# Altium footprint library STM32F051 Components.PcbLib: 18 footprints (part 1 of 2)
Each footprint in its own frame and in the unit in brackets; x right, y up, seen from the top. Pads: shape width x height; smd on the part's side, far side on the other; paste and mask are expansions set on the pad; w line width, h text height; cw(c..) or ccw(c..) is an arc to the next point about the centre after c.
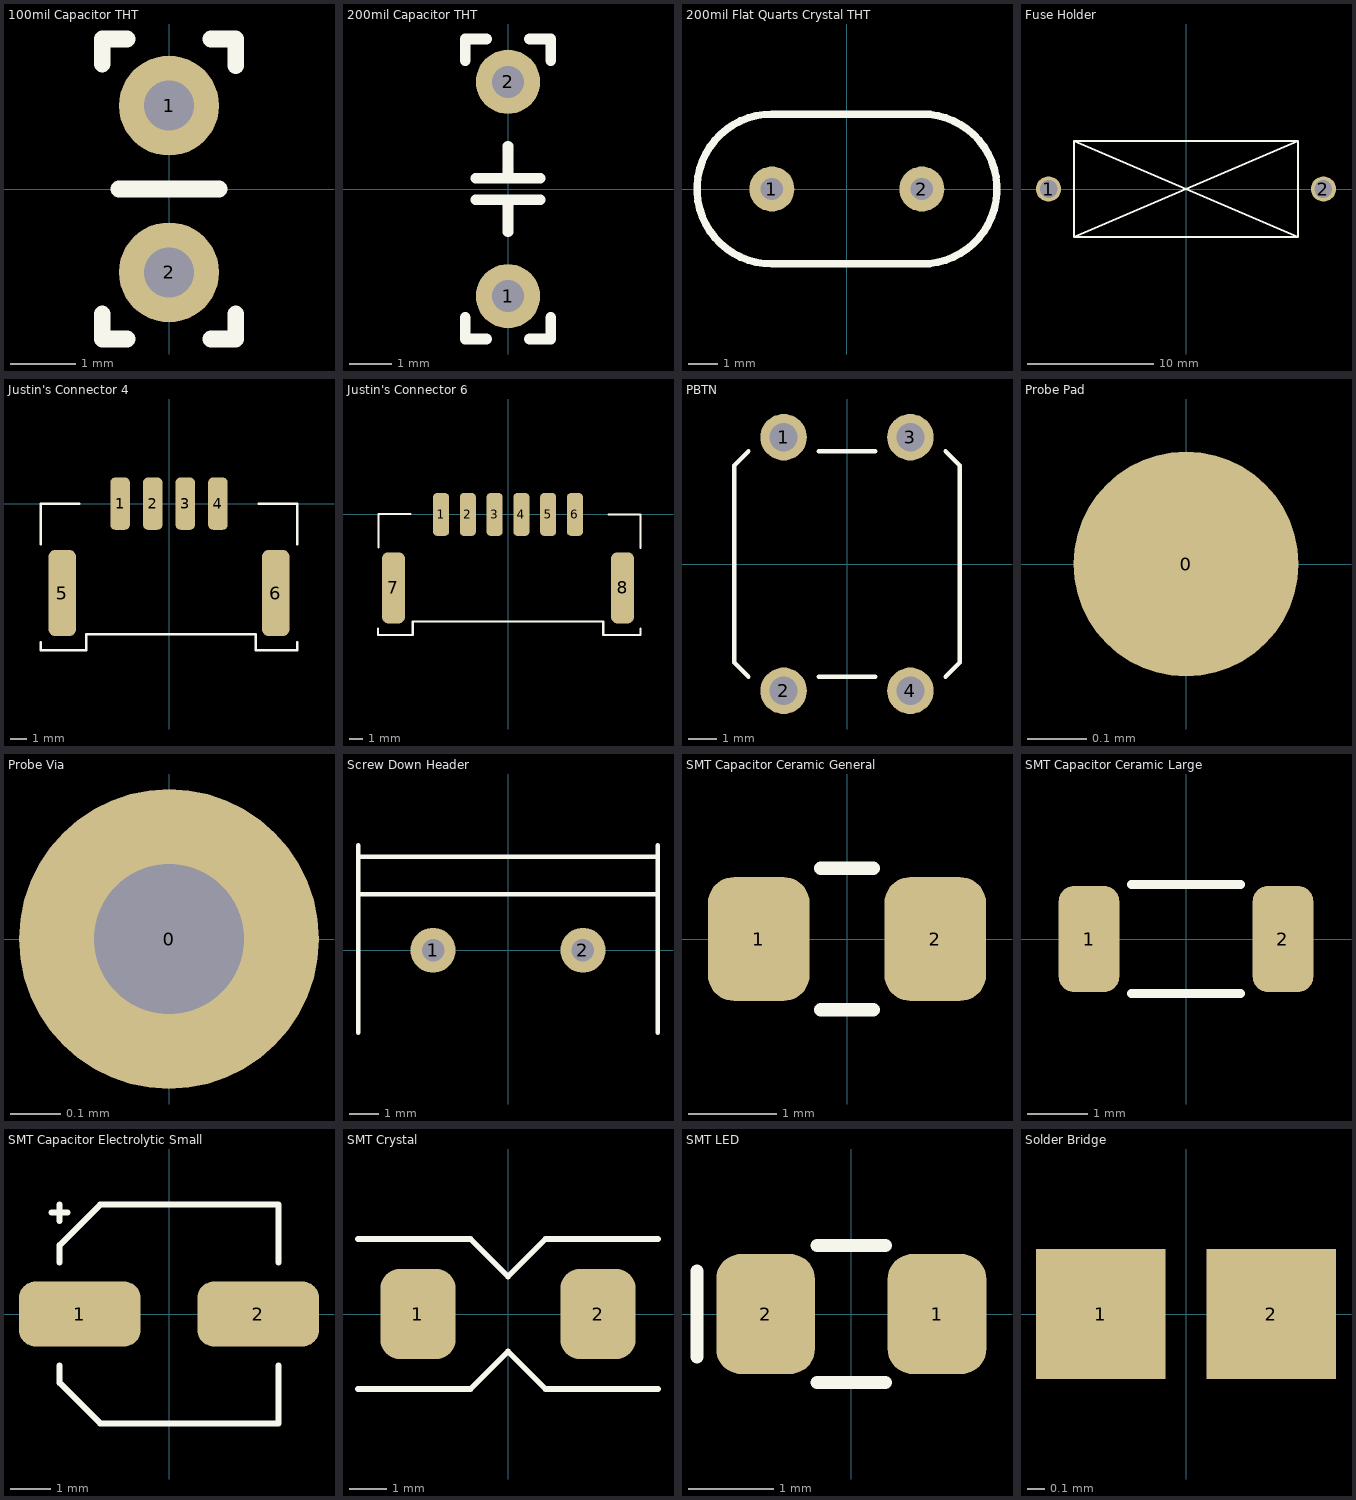
[diagram p0: the footprints below, top view; thin cyan lines are the x and y axes]

## 100mil Capacitor THT [mil] "100mil THT Bipolar Capacitor"
height 50
pads (2):
  round 60 hole 30: 1(0,50) 2(0,-50)
Top Overlay:
  lines w10: -40,-75 -40,-90 -25,-90 ; -40,75 -40,90 -25,90 ; -30,0 30,0 ; 25,-90 40,-90 40,-75 ; 25,90 40,90 40,74

## 200mil Capacitor THT [mil] "200mil THT Bipolar Capacitor"
height 100
pads (2):
  round 60 hole 30: 1(0,-100) 2(0,100)
Top Overlay:
  lines w10: -40,-120 -40,-140 -20,-140 ; -40,120 -40,140 -20,140 ; -30,-10 30,-10 ; -30,10 30,10 ; 0,-40 0,-10 ; 0,10 0,40 ; 20,-140 40,-140 40,-120 ; 20,140 40,140 40,120

## 200mil Flat Quarts Crystal THT [mil] "Standard Ovular Quarts Crystal"
height 2000
pads (2):
  round 60 hole 30: 1(-100,0) 2(100,0)
Top Layer:
  pour cut-out: -150,50
Top Overlay:
  lines w10: 100,100 -100,100 ccw(c-100,0) -100,-100 100,-100 ccw(c100.33,0) 100.11,100

## Fuse Holder [mm]
pads (2):
  round 2 hole 1.4: 1(-10.92,0) 2(10.92,0)
Top Overlay:
  lines w0.152: -8.89,-3.81 8.89,3.81 ; -8.89,-3.81 -8.89,3.81 ; -8.89,-3.81 8.89,-3.81 ; -8.89,3.81 8.89,-3.81 ; -8.89,3.81 8.89,3.81 ; 8.89,-3.81 8.89,3.81

## Justin's Connector 4 [mm]
pads (6):
  rrect50% 1.2x3.2 smd: 1(-3,0) 2(-1,0) 3(1,0) 4(3,0)
  rrect50% 1.7x5.3 smd: 5(-6.55,-5.48) 6(6.55,-5.48)
Top Overlay:
  lines w0.152: -7.874,-8.5 -7.874,-9 -5.08,-9 -5.08,-8 5.334,-8 5.334,-9 7.874,-9 7.874,-8.5 ; -7.874,-2.5 -7.874,0 -5.5,0 ; 5.5,0 7.874,0 7.874,-2.5
3D body: height 6.7, standoff -6, extent -7.8,0 -7.8,0
3D body: height 10, standoff 0, extent -7.875,-9 7.875,0

## Justin's Connector 6 [mm]
pads (8):
  rrect50% 1.2x3.2 smd: 1(-5,0) 2(-3,0) 3(-1,0) 4(1,0) 5(3,0) 6(5,0)
  rrect50% 1.7x5.3 smd: 7(-8.55,-5.48) 8(8.55,-5.48)
Top Overlay:
  lines w0.152: -9.7,-8.5 -9.7,-9 -7.112,-9 -7.112,-8 7.112,-8 7.112,-9 9.906,-9 9.906,-8.5 ; -9.681,-2.45 -9.681,0.05 -7.275,0.05 ; 7.5,0 9.906,0 9.906,-2.5
3D body: height 6.7, standoff -6, extent -9.7,0.05 -9.7,0.05
3D body: height 10, standoff 0, extent -9.725,-9.05 9.9,0.05

## PBTN [mm] "Standard Push Button"
pads (4):
  round 1.65 hole 1: 1(-2.25,4.5) 2(-2.25,-4.5) 3(2.25,4.5) 4(2.25,-4.5)
Top Overlay:
  lines w0.152: -3.5,-4 -4,-3.5 -4,-1.5 -4,3.5 -3.5,4 ; -1,-4 1,-4 ; -1,4 1,4 ; 3.5,-4 4,-3.5 4,3.5 3.5,4
3D body: height 5, standoff 4, extent -1.488,-1.497 1.5,1.497
3D body: height 4, standoff 0, extent -4,-3.5 4,3.5
3D body: height 4.2, standoff 4, extent 2.704,-3.199 3.7,-2.201
3D body: height 4.2, standoff 4, extent -3.796,-3.299 -2.8,-2.301
3D body: height 4.2, standoff 4, extent -3.796,2.301 -2.8,3.299
3D body: height 4.2, standoff 4, extent 2.804,2.301 3.8,3.299

## Probe Pad [mil] "Standard Small Probe Point"
height 10
pads (1):
  round 15 smd: 0(0,0)

## Probe Via [mm]
pads (1):
  round 0.6 hole 0.3: 0(0,0)

## Screw Down Header [mil]
pads (2):
  round 60 hole 30: 1(-100,0) 2(100,0)
Top Overlay:
  lines w6: -200,-110 -200,140 ; -200,75 200,75 ; -200,125 200,125 ; 200,-110 200,140
3D body: height 393.7, standoff 0, extent -200.79,-110.24 200.01,74.8
3D body: height 275.59, standoff 0, extent -200.79,74.8 200.79,125.98
3D body: height 263.78, standoff -236.22, extent 240.16,43.31 240.16,43.31

## SMT Capacitor Ceramic General [mm] "Rushed General Hand Solderable SMT Capacitor"
height 0.127
pads (2):
  rrect50% 1.15x1.4 smd: 1(-1,0) 2(1,0)
Top Overlay:
  lines w0.152: -0.3,-0.8 0.3,-0.8 ; -0.3,0.8 0.3,0.8
3D body: height 1, standoff 0, extent -1,-0.7 1,0.7

## SMT Capacitor Ceramic Large [mm]
pads (2):
  rrect50% 1x1.75 smd: 1(-1.6,0) 2(1.6,0)
Top Overlay:
  lines w0.152: -0.9,-0.9 0.9,-0.9 ; -0.9,0.9 0.9,0.9
3D body: height 6.7, standoff -6, extent -0.7,0.2 -0.7,0.2
3D body: height 6.7, standoff -6, extent -0.7,-0.1 -0.7,-0.1
3D body: height 1, standoff 0, extent -1.6,-0.95 1.6,0.95

## SMT Capacitor Electrolytic Small [mm]
pads (2):
  rrect50% 3x1.6 smd: 1(-2.2,0) 2(2.2,0)
Top Overlay:
  lines w0.152: -2.9,2.5 -2.5,2.5 ; -2.7,-1.27 -2.7,-1.7 -1.7,-2.7 2.7,-2.7 2.7,-1.27 ; -2.7,1.27 -2.7,1.7 -1.7,2.7 2.7,2.7 2.7,1.27 ; -2.7,2.3 -2.7,2.7
3D body: height 5, standoff 2, extent -2,-2 2,2
3D body: height 2, standoff 0, extent -2.7,-2.7 2.7,2.7

## SMT Crystal [mm] "SMT Crystal usually 8MHz"
height 0.635
pads (2):
  rrect50% 2x2.4 smd: 1(-2.4,0) 2(2.4,0)
Top Overlay:
  lines w0.152: -4,-2 -1,-2 0,-1 1,-2 4,-2 ; -4,2 -1,2 0,1 1,2 4,2
3D body: height 3, standoff 0, extent -2.4,-1.6 2.4,1.6

## SMT LED [mm] "Small SMT LED"
pads (2):
  rrect50% 1.15x1.4 smd: 1(1,0) 2(-1,0)
Top Overlay:
  lines w0.152: -1.8,-0.5 -1.8,0.5 ; -0.4,-0.8 0.4,-0.8 ; -0.4,0.8 0.4,0.8
3D body: height 2, standoff 0, extent -1.1,-0.8 1,0.8

## Solder Bridge [mil] "Small Solder Bridge Pad"
pads (2):
  rect 30x30 smd: 1(-19.68,0) 2(19.68,0)